# EAGLE library part 5X2_SMD_2.54MM_HEADER (library SMD_headers)
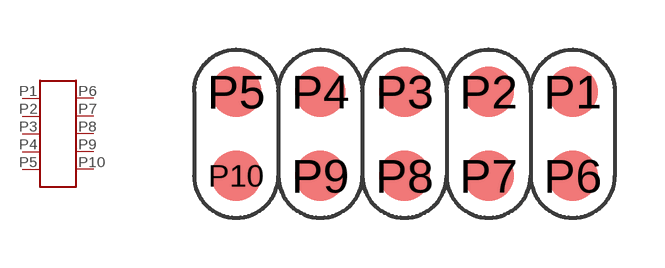
[diagram p0: symbol with the pads of 5X2_HEADER; footprint 5X2_HEADER]

Designator prefix X

## 5X2_SMD_2.54MM_HEADER  [5X2_HEADER]
P1  P1
P2  P2\
P3  P3
P4  P4
P5  P5
P6  P6
P7  P7
P8  P8
P9  P9
P10  P10

## Footprint 5X2_HEADER (pad centres in mm)
smd 1.524 x 1.524: P1 5.08,1.27; P2 2.54,1.27; P3 0,1.27; P4 -2.54,1.27; P5 -5.08,1.27; P6 5.08,-1.27; P7 2.54,-1.27; P8 0,-1.27; P9 -2.54,-1.27; P10 -5.08,-1.27